# Altium schematic symbol library power_supply.SchLib: 10 symbols
Pins are listed as number, name and electrical type; pins without a type are passive.

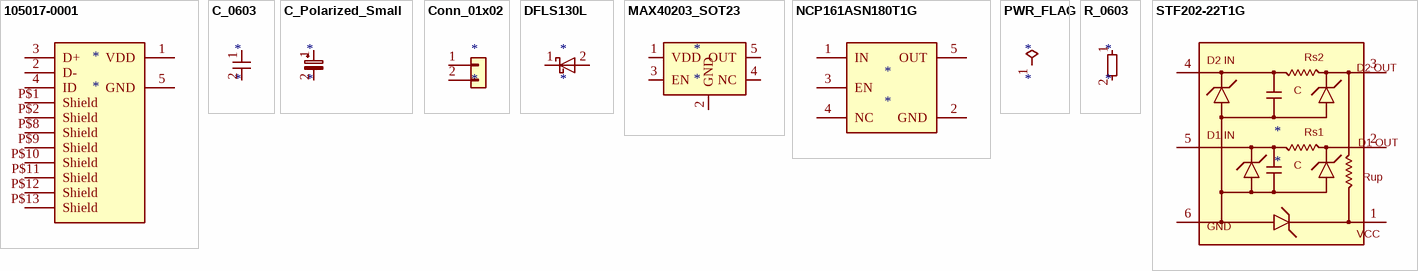
[diagram p0: symbols 105017-0001 to STF202-22T1G]

## 105017-0001
designator *
pins: 1 VDD, 2 D-, 3 D+, 4 ID, 5 GND, P$1 Shield, P$2 Shield, P$8 Shield, P$9 Shield, P$10 Shield, P$11 Shield, P$12 Shield, P$13 Shield

## C_0603
designator *
pins: 1, 2

## C_Polarized_Small
designator *
pins: 1, 2

## Conn_01x02
designator *
pins: 1 Pin_1, 2 Pin_2

## DFLS130L
designator *
pins: 1 K, 2 A

## MAX40203_SOT23
designator *
pins: 1 VDD, 2 GND, 3 EN, 4 NC, 5 OUT

## NCP161ASN180T1G
designator *
pins: 1 IN, 2 GND, 3 EN, 4 NC, 5 OUT

## PWR_FLAG
designator *  (graphical)
pins: 1 pwr

## R_0603
designator *
pins: 1, 2

## STF202-22T1G
designator *
pins: 1, 2, 3, 4, 5, 6
text: D2 IN; Rs2; D2 OUT; C; D1 IN; Rs1; D1 OUT; Rup; GND; VCC